# Altium integrated library A7682E.IntLib: 1 symbol
Pins are listed as number, name and electrical type; pins without a type are passive.

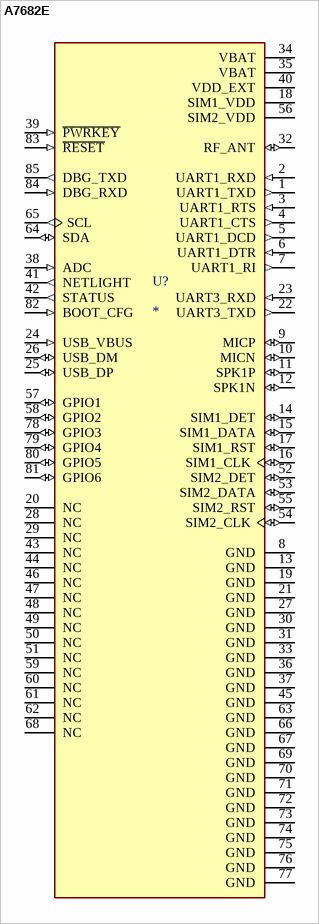
[diagram p0: symbol A7682E]

## A7682E
designator U?
Cellular EDGE, GPRS, GSM, LTE Transceiver Module 900MHz, 1.8GHz Antenna Not Included Surface Mount; MP: A7682E; MF: SIMCom; Package: Package; SnapEDA_Link: https://www.snapeda.com/parts/A7682E/SIMCom/view-part/?ref=snap; Value: *; Availability: In Stock; Price: None; Purchase-URL: https://pricing.snapeda.com/search/part/A7682E/?ref=eda; Check_prices: https://www.snapeda.com/parts/A7682E/SIMCom/view-part/?ref=eda
footprint XCVR_A7682E
pins: 1 UART1_TXD (out), 2 UART1_RXD (in), 3 UART1_RTS (in), 4 UART1_CTS (out), 5 UART1_DCD (out), 6 UART1_DTR (in), 7 UART1_RI (out), 8 GND (power), 9 MICP (io), 10 MICN (io), 11 SPK1P (io), 12 SPK1N (io), 13 GND (power), 14 SIM1_DET (io), 15 SIM1_DATA (io), 16 SIM1_CLK (io), 17 SIM1_RST (io), 18 SIM1_VDD (power), 19 GND (power), 20 NC, 21 GND (power), 22 UART3_TXD (out), 23 UART3_RXD (in), 24 USB_VBUS (in), 25 USB_DP (io), 26 USB_DM (io), 27 GND (power), 28 NC, 29 NC, 30 GND (power), 31 GND (power), 32 RF_ANT (io), 33 GND (power), 34 VBAT (power), 35 VBAT (power), 36 GND (power), 37 GND (power), 38 ADC (in), 39 ~{PWRKEY} (in), 40 VDD_EXT (power), 41 NETLIGHT (out), 42 STATUS (out), 43 NC, 44 NC, 45 GND (power), 46 NC, 47 NC, 48 NC, 49 NC, 50 NC, 51 NC, 52 SIM2_DET (io), 53 SIM2_DATA (io), 54 SIM2_CLK (io), 55 SIM2_RST (io), 56 SIM2_VDD (power), 57 GPIO1 (io), 58 GPIO2 (io), 59 NC, 60 NC, 61 NC, 62 NC, 63 GND (power), 64 SDA (io), 65 SCL (out), 66 GND (power), 67 GND (power), 68 NC, 69 GND (power), 70 GND (power), 71 GND (power), 72 GND (power), 73 GND (power), 74 GND (power), 75 GND (power), 76 GND (power), 77 GND (power), 78 GPIO3 (io), 79 GPIO4 (io), 80 GPIO5 (io), 81 GPIO6 (io), 82 BOOT_CFG (in), 83 ~{RESET} (in), 84 DBG_RXD (in), 85 DBG_TXD (out)